# Altium schematic symbol library Schlib.SchLib: 9 symbols
Pins are listed as number, name and electrical type; pins without a type are passive.

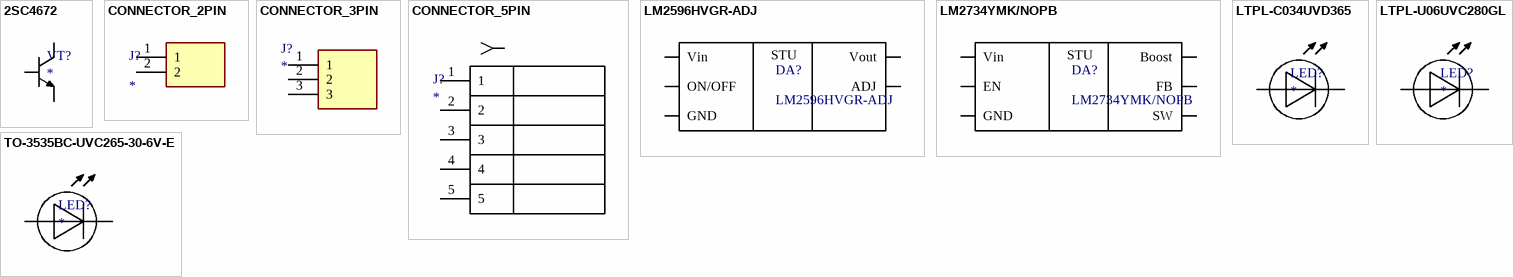
[diagram p0: symbols 2SC4672 to TO-3535BC-UVC265-30-6V-E]

## 2SC4672
designator VT?
footprint 2SC4672 (Transistor)
pins: 1 E, 2 C, 3 B

## CONNECTOR_2PIN
designator J?
Connector
pins: 1, 2

## CONNECTOR_3PIN
designator J?
Connector
pins: 1, 2, 3

## CONNECTOR_5PIN
designator J?
Connector
pins: 1, 2, 3, 4, 5

## LM2596HVGR-ADJ
designator DA?
Step-down DC-DC, 3A
footprint to-263-5l
pins: 1 Vin, 2 Vout, 3 GND, 4 ADJ, 5 ON/OFF
text: STU

## LM2734YMK/NOPB
designator DA?
Step-down DC-DC, 1A
footprint SOT23-6 (pitch 0.95 mm)
pins: 1 Boost, 2 GND, 3 FB, 4 EN, 5 Vin, 6 SW
text: STU

## LTPL-C034UVD365
designator LED?
UV-LED, 350mA
footprint LTPL-C034UVD365 (UV LED, 350mA)
pins: 1 A, 2 K

## LTPL-U06UVC280GL
designator LED?
UV-LED, 20mA
footprint LTPL-U06UVC280GL (UV LED, 20mA)
pins: 1 A, 2 K

## TO-3535BC-UVC265-30-6V-E
designator LED?
UV-LED, 30mA
footprint TO-3535BC-UVC265-30-6V-E (UV LED, 30mA)
pins: 3 A, 4 K